# Altium schematic symbol library LM317.SchLib: 1 symbol
Pins are listed as number, name and electrical type; pins without a type are passive.

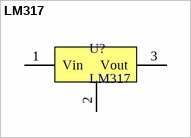
[diagram p0: symbol LM317]

## LM317
designator U?
pins: 1 Vin, 2 Vad, 3 Vout